# EAGLE library part 74HC4067PW,118 (library 16ch MUX)
74HC(T)4067 - 16-channel analog multiplexer/demultiplexer@en-us Source: Datasheet <https://assets.nexperia.com/documents/data-sheet/74HC_HCT4067.pdf>
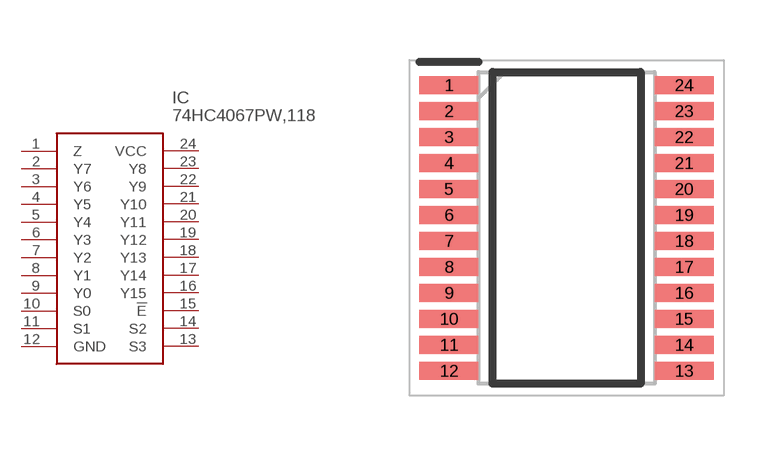
[diagram p0: symbol with the pads of SOP65P640X110-24N; footprint SOP65P640X110-24N]

Designator prefix IC

## 74HC4067PW,118 (Description: 74HC(T)4067 - 16-channel analog multiplexer/demultiplexer@en-us; Height: 1.1mm; Manufacturer_Name: Nexperia; Manufacturer_Part_Number: 74HC4067PW,118; Mouser_Part_Number: 771-74HC4067PW-T; Mouser_Price-Stock: https://www.mouser.co.uk/ProductDetail/Nexperia/74HC4067PW118?qs=P62ublwmbi9BArRi%252BuDUjA%3D%3D)  [SOP65P640X110-24N]
1  Z
2  Y7
3  Y6
4  Y5
5  Y4
6  Y3
7  Y2
8  Y1
9  Y0
10  S0
11  S1
12  GND
13  S3
14  S2
15  !E
16  Y15
17  Y14
18  Y13
19  Y12
20  Y11
21  Y10
22  Y9
23  Y8
24  VCC

## Footprint SOP65P640X110-24N (pad centres in mm)
SOT355-1
smd 1.475 x 0.45: 1 -2.938,3.575; 2 -2.938,2.925; 3 -2.938,2.275; 4 -2.938,1.625; 5 -2.938,0.975; 6 -2.938,0.325; 7 -2.938,-0.325; 8 -2.938,-0.975; 9 -2.938,-1.625; 10 -2.938,-2.275; 11 -2.938,-2.925; 12 -2.938,-3.575; 13 2.938,-3.575; 14 2.938,-2.925; 15 2.938,-2.275; 16 2.938,-1.625; 17 2.938,-0.975; 18 2.938,-0.325; 19 2.938,0.325; 20 2.938,0.975; 21 2.938,1.625; 22 2.938,2.275; 23 2.938,2.925; 24 2.938,3.575